# Altium footprint library COMPLEX_EXTENDED.PcbLib: 1 footprints
Each footprint in its own frame and in the unit in brackets; x right, y up, seen from the top. Pads: shape width x height; smd on the part's side, far side on the other; paste and mask are expansions set on the pad; w line width, h text height; cw(c..) or ccw(c..) is an arc to the next point about the centre after c.
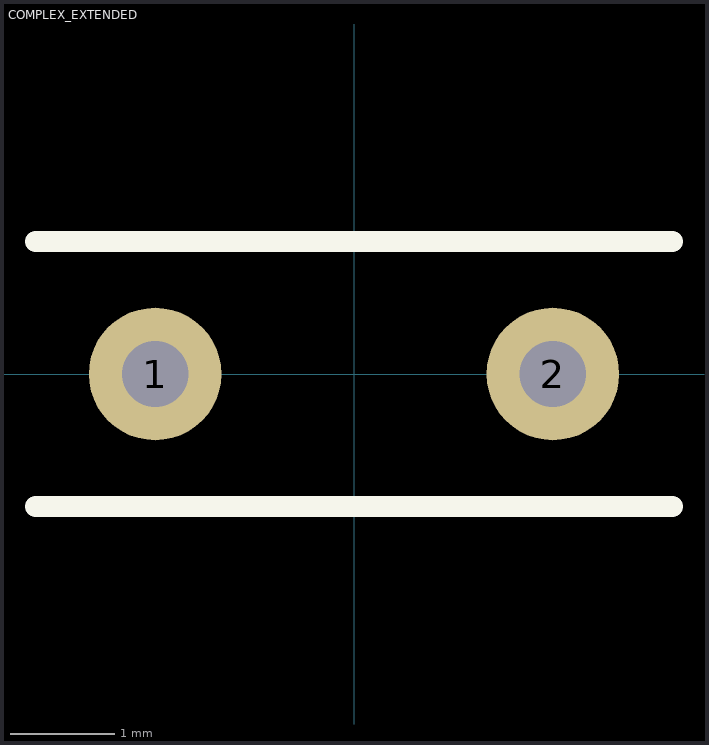
[diagram p0: the footprint, top view; thin cyan lines are the x and y axes]

## COMPLEX_EXTENDED [mil] "Complex footprint with all extended property types"
pads (2):
  round 50 hole 25: 1(-75,0)
  round 50 hole 25 paste+0 mask+4: 2(75,0)
Top Overlay:
  lines w8: -120,-50 120,-50 ; -120,50 120,50
3D body: height 80, standoff 0, extent -100,-50 100,50